# Altium footprint library coilcraft-power.PcbLib: 6 footprints
Each footprint in its own frame and in the unit in brackets; x right, y up, seen from the top. Pads: shape width x height; smd on the part's side, far side on the other; paste and mask are expansions set on the pad; w line width, h text height; cw(c..) or ccw(c..) is an arc to the next point about the centre after c.
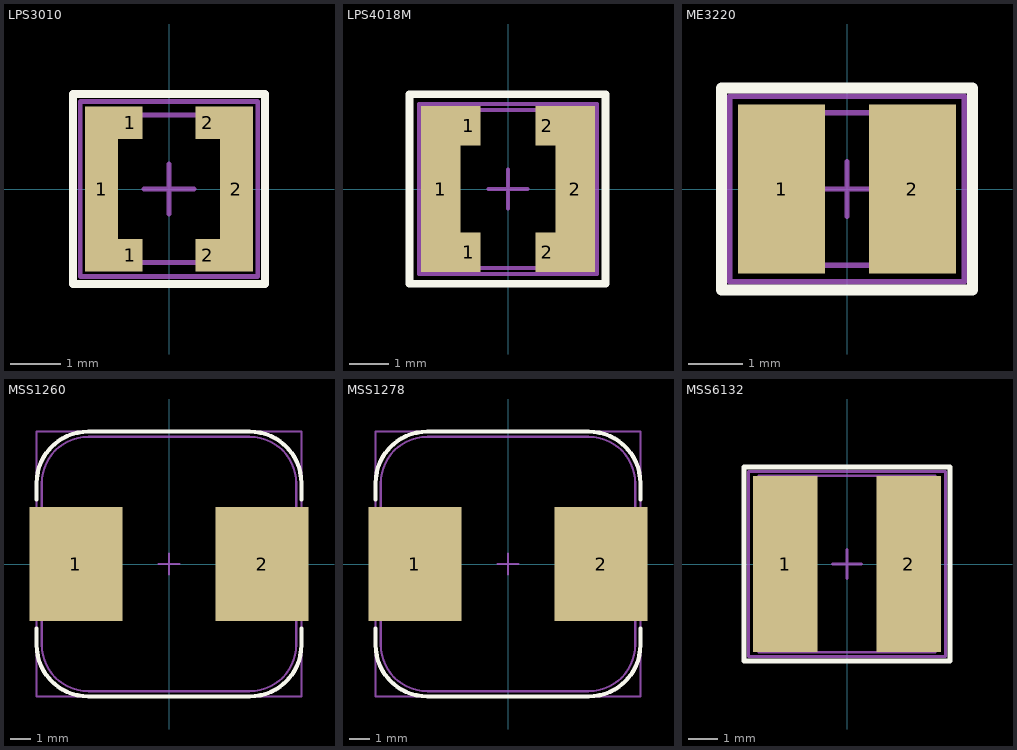
[diagram p0: the footprints below, top view; thin cyan lines are the x and y axes]

## LPS3010 [mm] "Precision Wire Wound Inductor, 2-Leads, Body 3.0x3.0mm, IPC High Density"
height 1
pads (6):
  rect 0.65x3.3 smd: 1(-1.35,0) 2(1.35,0)
  rect 0.5x0.65 smd: 1(-0.775,-1.325) 1(-0.775,1.325) 2(0.775,-1.325) 2(0.775,1.325)
Top Overlay:
  lines w0.16: -1.925,-1.9 -1.925,1.9 1.925,1.9 1.925,-1.9 -1.925,-1.9
Mechanical 13:
  lines w0.1: -0.5,0 0.5,0 ; 0,-0.5 0,0.5 ; -1.475,-1.475 1.475,-1.475 1.475,1.475 -1.475,1.475 -1.475,-1.475
Mechanical 15:
  lines w0.1: -1.775,-1.75 1.775,-1.75 1.775,1.75 -1.775,1.75 -1.775,-1.75
  text ".Designator" at 0.1,-1.375 h0.5
3D body: height 1, standoff 0, extent -1.5,-1.5 1.5,1.5

## LPS4018M [mm] "Precision Wire Wound Inductor, 2-Leads, Body 4.0x5.0mm, IPC Medium Density"
height 1
pads (6):
  rect 1x4.2 smd: 1(-1.7,0) 2(1.7,0)
  rect 0.6x1 smd: 1(-1,-1.6) 1(-1,1.6) 2(1,-1.6) 2(1,1.6)
Top Overlay:
  lines w0.2: -2.5,-2.4 -2.5,2.4 2.475,2.4 2.475,-2.4 -2.5,-2.4
Mechanical 13:
  lines w0.1: -0.5,0 0.5,0 ; 0,-0.5 0,0.5 ; -2,-2 2,-2 2,2 -2,2 -2,-2
Mechanical 15:
  lines w0.1: -2.25,-2.15 2.25,-2.15 2.25,2.15 -2.25,2.15 -2.25,-2.15
  text ".Designator" at 0.1,-1.375 h0.5
3D body: height 1.8, standoff 0, extent -2.053,-2.053 2.053,2.053

## ME3220 [mm] "SMT Power Inductor"
height 2
pads (2):
  rect 1.6x3.1 smd: 1(-1.2,0) 2(1.2,0)
Top Overlay:
  lines w0.2: -2.3,-1.85 -2.3,1.85 2.3,1.85 2.3,-1.85 -2.3,-1.85
Mechanical 13:
  lines w0.1: -0.5,0 0.5,0 ; 0,-0.5 0,0.5 ; -1.7,-1.4 1.6,-1.4 1.6,1.4 -1.7,1.4 -1.7,-1.4
Mechanical 15:
  lines w0.1: -2.15,-1.7 2.15,-1.7 2.15,1.7 -2.15,1.7 -2.15,-1.7
  text ".Designator" at 0.175,-2.325 h0.5
3D body: height 2.35, standoff -0.05, extent -1.75,-1.4 1.75,1.4

## MSS1260 [mm] "Shielded Surface Mount Power Inductor"
height 6
pads (2):
  rect 4.5x5.5 smd: 1(-4.5,0) 2(4.5,0)
Top Overlay:
  lines w0.2: -6.4,-3.125 -6.4,-3.9 ccw(c-3.9,-3.9) -3.9,-6.4 3.9,-6.4 ccw(c3.9,-3.9) 6.4,-3.9 6.4,-3.125 ; -6.4,3.125 -6.4,3.9 cw(c-3.9,3.9) -3.9,6.4 3.9,6.4 cw(c3.9,3.9) 6.4,3.9 6.4,3.125
Mechanical 13:
  lines w0.1: -0.5,0 0.5,0 ; 0,-0.5 0,0.5 ; -6.15,-3.9 ccw(c-3.9,-3.9) -3.9,-6.15 3.9,-6.15 ccw(c3.9,-3.9) 6.15,-3.9 6.15,3.9 ccw(c3.9,3.9) 3.9,6.15 -3.9,6.15 ccw(c-3.9,3.9) -6.15,3.9 -6.15,-3.9
Mechanical 15:
  lines w0.1: -6.4,-6.4 -6.4,6.4 6.4,6.4 6.4,-6.4 -6.4,-6.4
  text ".Designator" at 0.175,-2.325 h0.5
3D body: height 6.2, standoff -0.04, extent -6.15,-6.15 6.15,6.15

## MSS1278 [mm] "Shielded Surface Mount Power Inductor"
height 8
pads (2):
  rect 4.5x5.5 smd: 1(-4.5,0) 2(4.5,0)
Top Overlay:
  lines w0.2: -6.4,-3.125 -6.4,-3.9 ccw(c-3.9,-3.9) -3.9,-6.4 3.9,-6.4 ccw(c3.9,-3.9) 6.4,-3.9 6.4,-3.125 ; -6.4,3.125 -6.4,3.9 cw(c-3.9,3.9) -3.9,6.4 3.9,6.4 cw(c3.9,3.9) 6.4,3.9 6.4,3.125
Mechanical 13:
  lines w0.1: -0.5,0 0.5,0 ; 0,-0.5 0,0.5 ; -6.15,-3.9 ccw(c-3.9,-3.9) -3.9,-6.15 3.9,-6.15 ccw(c3.9,-3.9) 6.15,-3.9 6.15,3.9 ccw(c3.9,3.9) 3.9,6.15 -3.9,6.15 ccw(c-3.9,3.9) -6.15,3.9 -6.15,-3.9
Mechanical 15:
  lines w0.1: -6.4,-6.4 -6.4,6.4 6.4,6.4 6.4,-6.4 -6.4,-6.4
  text ".Designator" at 0.175,-2.325 h0.5
3D body: height 8, standoff -0.05, extent -6.1,-6.1 6.1,6.1

## MSS6132 [mm] "Precision Wire Wound Inductor"
height 3.2
pads (2):
  rect 2.2x6 smd: 1(-2.1,0) 2(2.1,0)
Top Overlay:
  lines w0.16: -3.5,-3.3 3.5,-3.3 3.5,3.3 -3.5,3.3 -3.5,-3.3
Mechanical 13:
  lines w0.1: -0.5,0 0.5,0 ; 0,-0.5 0,0.5 ; -3,-3 -3,3 3,3 3,-3 -3,-3
Mechanical 15:
  lines w0.1: -3.35,-3.15 -3.35,3.15 3.35,3.15 3.35,-3.15 -3.35,-3.15
  text ".Designator" at 0.175,-2.325 h0.5
3D body: height 3.2, standoff 0, extent -3.05,-3.05 3.05,3.05